# Altium schematic symbol library PIS150H-471M.SchLib: 1 symbol
Pins are listed as number, name and electrical type; pins without a type are passive.

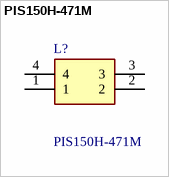
[diagram p0: symbol PIS150H-471M]

## PIS150H-471M
designator L?
Power Inductors - SMD Differential mode inductor 470 uH, 15.5x15.5 mm, PoDL 10BASE-T1L; Manufacturer_Name: TDK; Geometry.Height: 14.5mm; Mouser Part Number: 871-PIS150H-471M; Mouser Price/Stock: https://www.mouser.co.uk/ProductDetail/EPCOS-TDK/PIS150H-471M?qs=Y0Uzf4wQF3ncdYG5ACt1MQ%3D%3D; Manufacturer_Part_Number: PIS150H-471M; Datasheet Link: https://product.tdk.com/system/files/dam/doc/product/inductor/inductor/smd/data_sheet/30/db/ind_2008/pis150h.pdf
footprint PIS150H471M
pins: 1, 2, 3, 4